# Altium schematic symbol library Interfaces.SchLib: 3 symbols
Pins are listed as number, name and electrical type; pins without a type are passive.

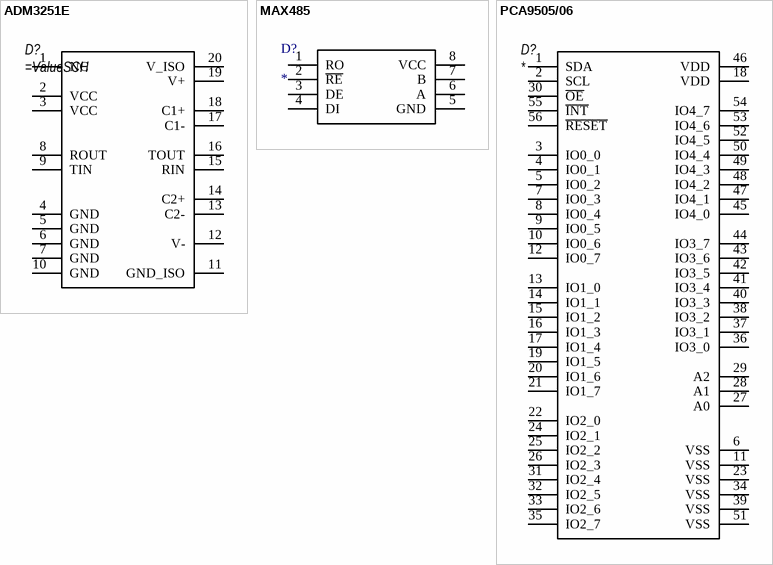
[diagram p0: symbols ADM3251E to PCA9505/06]

## ADM3251E
designator D?
pins: 1 NC, 2 VCC, 3 VCC, 4 GND, 5 GND, 6 GND, 7 GND, 8 ROUT, 9 TIN, 10 GND, 11 GND_ISO, 12 V-, 13 C2-, 14 C2+, 15 RIN, 16 TOUT, 17 C1-, 18 C1+, 19 V+, 20 V_ISO

## MAX485
designator D?
pins: 1 RO, 2 ~{RE}, 3 DE, 4 DI, 5 GND, 6 A, 7 B, 8 VCC

## PCA9505/06
designator D?
pins: 1 SDA, 2 SCL, 3 IO0_0, 4 IO0_1, 5 IO0_2, 6 VSS, 7 IO0_3, 8 IO0_4, 9 IO0_5, 10 IO0_6, 11 VSS, 12 IO0_7, 13 IO1_0, 14 IO1_1, 15 IO1_2, 16 IO1_3, 17 IO1_4, 18 VDD, 19 IO1_5, 20 IO1_6, 21 IO1_7, 22 IO2_0, 23 VSS, 24 IO2_1, 25 IO2_2, 26 IO2_3, 27 A0, 28 A1, 29 A2, 30 ~{OE}, 31 IO2_4, 32 IO2_5, 33 IO2_6, 34 VSS, 35 IO2_7, 36 IO3_0, 37 IO3_1, 38 IO3_2, 39 VSS, 40 IO3_3, 41 IO3_4, 42 IO3_5, 43 IO3_6, 44 IO3_7, 45 IO4_0, 46 VDD, 47 IO4_1, 48 IO4_2, 49 IO4_3, 50 IO4_4, 51 VSS, 52 IO4_5, 53 IO4_6, 54 IO4_7, 55 ~{INT}, 56 ~{RESET}